# Altium schematic symbol library SchLib_Main.SchLib: 425 symbols (part 3 of 11)
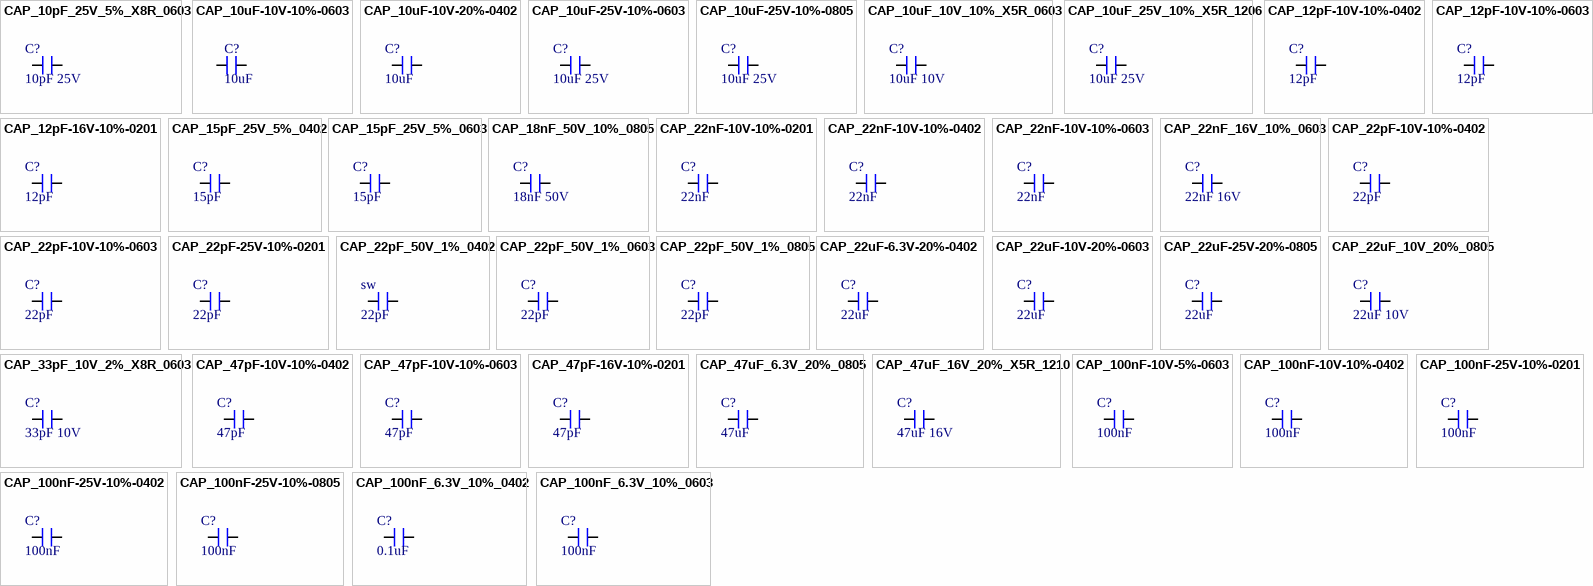
[diagram p18: symbols CAP_10pF_25V_5%_X8R_0603 to CAP_100nF_6.3V_10%_0603]

## CAP_10uF_25V_10%_X5R_1206
designator C?, comment 10uF 25V
Multilayer Ceramic Capacitor, 10 uF, 25 V, ± 10%, X5R, 1206 [3216 Metric]; Manufacturer 1: KEMET; Manufacturer Part Number 1: C1206C106K3PACTU; Material: 4241ConductorMaterial; Dissipation Factor: 5%; Supplier 1: Digi-Key; RoHS: Yes; Category: Ceramic Capacitors; Stock 1: 101746; Pricing 1: 1=0.35, 10=0.243, 50=0.17, 100=0.1457, 500=0.1093, 1000=0.09229 (USD); Mount: Surface Mount; Case/Package: 1206; Number of Pins: 2NUMBER; Case Code (Imperial): 1206; Case Code (Metric): 3216; Contact Plating: 154ConductorMaterial; Min Operating Temperature: -55°C; Max Operating Temperature: 85°C; Capacitance: 10uF; Tolerance: 10%; Dielectric: X5R; Packaging: Tape and Reel; Voltage Rating (DC): 25V; Voltage Rating: 25V; Series: SMD Comm X5R; Voltage Rating (AC): 25V; Length: 3.2mm; Width: 1.6002mm; Thickness: 1.8034mm; Depth: 1.6mm; Radiation Hardening: No; Reach SVHC Compliant: 4186SVHC; Lead Free: 5697LeadFree; RoHS Compliant: Yes; ComponentLink1URL: http://www.farnell.com/datasheets/2739687.pdf?src-supplier=Farnell; ComponentLink1Description: http://www.farnell.com/datasheets/2739687.pdf?src-supplier=Farnell; ComponentLink2URL: https://www.verical.com/server-webapp/html/getDatasheet?partID=385834&src-supplier=Verical; ComponentLink2Description: https://www.verical.com/server-webapp/html/getDatasheet?partID=385834&src-supplier=Verical; ComponentLink3URL: http://www.onlinecomponents.com/productFiles/mf-KEM/kem_c1006_x5r_smd.pdf?src-supplier=Onlinecomponents.com; ComponentLink3Description: http://www.onlinecomponents.com/productFiles/mf-KEM/kem_c1006_x5r_smd.pdf?src-supplier=Onlinecomponents.com; ComponentLink4URL: http://datasheet.octopart.com/C1206C106K3PAC-TU-Kemet-datasheet-5314969.pdf?src-supplier=Onlinecomponents.com; ComponentLink4Description: http://datasheet.octopart.com/C1206C106K3PAC-TU-Kemet-datasheet-5314969.pdf?src-supplier=Onlinecomponents.com; ComponentLink5URL: http://www.farnell.com/datasheets/2739687.pdf?src-supplier=Newark; ComponentLink5Description: http://www.farnell.com/datasheets/2739687.pdf?src-supplier=Newark; ComponentLink6URL: https://api.kemet.com/component-edge/download/datasheet/C1206C106K3PACTU.pdf?src-supplier=Digi-Key; ComponentLink6Description: https://api.kemet.com/component-edge/download/datasheet/C1206C106K3PACTU.pdf?src-supplier=Digi-Key; ComponentLink7URL: http://datasheet.octopart.com/C1206C106K3PAC-TU-Kemet-datasheet-5314969.pdf?src-supplier=Mouser; ComponentLink7Description: http://datasheet.octopart.com/C1206C106K3PAC-TU-Kemet-datasheet-5314969.pdf?src-supplier=Mouser; ComponentLink8URL: http://datasheet.octopart.com/C1206C106K3PAC-TU-Kemet-datasheet-5314969.pdf?src-supplier=Digi-Key; ComponentLink8Description: http://datasheet.octopart.com/C1206C106K3PAC-TU-Kemet-datasheet-5314969.pdf?src-supplier=Digi-Key; ComponentLink9URL: http://datasheet.octopart.com/C1206C106K3PAC-TU-Kemet-datasheet-5314969.pdf?src-supplier=Verical; ComponentLink9Description: http://datasheet.octopart.com/C1206C106K3PAC-TU-Kemet-datasheet-5314969.pdf?src-supplier=Verical; ComponentLink10URL: http://datasheet.octopart.com/C1206C106K3PAC-TU-Kemet-datasheet-5314969.pdf?src-supplier=Avnet; ComponentLink10Description: http://datasheet.octopart.com/C1206C106K3PAC-TU-Kemet-datasheet-5314969.pdf?src-supplier=Avnet; ComponentLink11URL: https://datasheet.octopart.com/C1206C106K3PACTU-Kemet-datasheet-10978831.pdf?src-supplier=Newark; ComponentLink11Description: https://datasheet.octopart.com/C1206C106K3PACTU-Kemet-datasheet-10978831.pdf?src-supplier=Newark; ComponentLink12URL: http://datasheet.octopart.com/C1206C106K3PAC-TU-Kemet-datasheet-5314969.pdf?src-supplier=Distrelec; ComponentLink12Description: http://datasheet.octopart.com/C1206C106K3PAC-TU-Kemet-datasheet-5314969.pdf?src-supplier=Distrelec; ComponentLink13URL: http://www.farnell.com/datasheets/2739687.pdf?src-supplier=Element14; ComponentLink13Description: http://www.farnell.com/datasheets/2739687.pdf?src-supplier=Element14; ComponentLink14URL: https://datasheet.octopart.com/C1206C106K3PACTU-Kemet-datasheet-22084244.pdf?src-supplier=Element14; ComponentLink14Description: https://datasheet.octopart.com/C1206C106K3PACTU-Kemet-datasheet-22084244.pdf?src-supplier=Element14; ComponentLink15URL: http://datasheet.octopart.com/C1206C106K3PAC-TU-Kemet-datasheet-5314969.pdf?src-supplier=Rs; ComponentLink15Description: http://datasheet.octopart.com/C1206C106K3PAC-TU-Kemet-datasheet-5314969.pdf?src-supplier=Rs; ComponentLink16URL: http://datasheet.octopart.com/C1206C106K3PAC-TU-Kemet-datasheet-5314969.pdf?src-supplier=LCSC; ComponentLink16Description: http://datasheet.octopart.com/C1206C106K3PAC-TU-Kemet-datasheet-5314969.pdf?src-supplier=LCSC; ComponentLink17URL: https://datasheet.octopart.com/C1206C106K3PAC7800-KEMET-datasheet-165611373.pdf?src-supplier=TME; ComponentLink17Description: https://datasheet.octopart.com/C1206C106K3PAC7800-KEMET-datasheet-165611373.pdf?src-supplier=TME; ComponentLink18URL: http://datasheet.octopart.com/C1206C106K3PAC-TU-Kemet-datasheet-5314969.pdf?src-supplier=NAC+Semi; ComponentLink18Description: http://datasheet.octopart.com/C1206C106K3PAC-TU-Kemet-datasheet-5314969.pdf?src-supplier=NAC+Semi; ComponentLink19URL: http://datasheet.octopart.com/C1206C106K3PAC-TU-Kemet-datasheet-5314969.pdf?src-supplier=Quest; ComponentLink19Description: http://datasheet.octopart.com/C1206C106K3PAC-TU-Kemet-datasheet-5314969.pdf?src-supplier=Quest; ComponentLink20URL: http://datasheet.octopart.com/C1206C106K3PAC-TU-Kemet-datasheet-5314969.pdf?src-supplier=TTI; ComponentLink20Description: http://datasheet.octopart.com/C1206C106K3PAC-TU-Kemet-datasheet-5314969.pdf?src-supplier=TTI; ComponentLink21URL: https://datasheet.octopart.com/C1206C106K3PACTU-KEMET-datasheet-134136060.pdf?src-supplier=Electro+Sonic; ComponentLink21Description: https://datasheet.octopart.com/C1206C106K3PACTU-KEMET-datasheet-134136060.pdf?src-supplier=Electro+Sonic; Supplier Part Number 1: 399-C1206C106K3PAC7800DKR-ND
footprint CAP_1206
pins: 1, 2

## CAP_12pF-10V-10%-0402
designator C?, comment 12pF
Cap Cer 0402 12PF 10V Ultra Stab; Manufacturer: KEMET; Manufacturer Part Number: C0402C120K8HAC7867; Tolerance: 10%; Case/Package: 0402; Supplier-1: Digikey; Supplier 1: Digi-Key; Manufacturer 1: KEMET; Manufacturer Part Number 1: C0402C120K8HAC7867; RoHS: Yes; Category: Ceramic Capacitors; Pricing 1: 50000=0.00392 (USD); Mount: Surface Mount; Min Operating Temperature: -55°C; Max Operating Temperature: 150°C; Features: High Temperature; Series: SMD Comm X8R HT150C; Packaging: Tape and Reel; Capacitance: 12pF; Voltage Rating: 10V; RoHS Compliant: Yes; Supplier Part Number 1: C0402C120K8HAC7867-ND
footprint CAP_0402 (Capacitor)
pins: 1, 2

## CAP_12pF-10V-10%-0603
designator C?, comment 12pF
12pF ±10% 10V Ceramic Capacitor X8R 0603 (1608 Metric) /; Manufacturer: KEMET; Manufacturer Part Number: C0603X120K8HAC7867; Case/Package: 0603; Supplier-1: Digikey; Supplier 1: Digi-Key; Manufacturer 1: KEMET; Manufacturer Part Number 1: C0603X120K8HAC7867; RoHS: No; Category: Ceramic Capacitors; Pricing 1: 20000=0.0096 (USD); Supplier Part Number 1: C0603X120K8HAC7867-ND
footprint CAP_0603 (Capacitor)
pins: 1, 2

## CAP_12pF-16V-10%-0201
designator C?, comment 12pF
Capacitor SMD Ceramic 0201 Case 16Vdc C0G (NP0) Dielectric 12pF ±10% ø7T/R"; Manufacturer: AVX Corporation; Manufacturer Part Number: 0201YA120KAT2A; Manufacturer 1: Kyocera AVX; Voltage Rating: 16V; Case/Package: 0201; Supplier-1: Digikey; Supplier 1: Digi-Key; Manufacturer Part Number 1: 0201YA120KAT2A; RoHS: Yes; Category: Ceramic Capacitors; Pricing 1: 15000=0.06696 (USD); Mount: Surface Mount; Number of Pins: 2; Case Code (Imperial): 0201; Case Code (Metric): 0603; Min Operating Temperature: -55°C; Max Operating Temperature: 125°C; Packaging: Tape and Reel; Capacitance: 12pF; Tolerance: 10%; Package Quantity: 15000; Voltage Rating (DC): 16V; Dielectric: C0G; Termination: SMD/SMT; Series: -; Construction: Flat; Length: 0.6mm; Width: 0.3mm; Depth: 0.3mm; Radiation Hardening: No; RoHS Compliant: Yes; ComponentLink1URL: https://datasheet.ciiva.com/13269/ccog-243403-13269830.pdf?src-supplier=Mouser; ComponentLink1Description: https://datasheet.ciiva.com/13269/ccog-243403-13269830.pdf?src-supplier=Mouser; ComponentLink2URL: https://datasheet.ciiva.com/208/ccog-208350.pdf?src-supplier=Digi-Key; ComponentLink2Description: https://datasheet.ciiva.com/208/ccog-208350.pdf?src-supplier=Digi-Key; Supplier Part Number 1: 0201YA120KAT2A-ND
footprint CAP_0201
pins: 1, 2

## CAP_15pF_25V_5%_0402
designator C?, comment 15pF
0402 15 pF 25 V ±5% Tolerance C0G/NP0 Multilayer Ceramic Capacitor; Manufacturer: Yageo; Manufacturer Part Number: CC0402JRNPO8BN150; Supplier 1: Future Electronics; RoHS: Yes; Category: Ceramic Capacitors; Stock 1: 60000; Pricing 1: 10000=0.002, 40000=0.0019, 150000=0.0018, 400000=0.0017, 1000000=0.0016 (USD); ComponentLink1URL: https://datasheet.ciiva.com/13208/upy-gp-np0-16v-to-50v-8-13208552.pdf?src-supplier=Mouser; ComponentLink1Description: https://datasheet.ciiva.com/13208/upy-gp-np0-16v-to-50v-8-13208552.pdf?src-supplier=Mouser; Supplier 2: Digi-Key; Manufacturer 2: Yageo; Manufacturer Part Number 2: CC0402JRNPO8BN150; Stock 2: 198627; Pricing 2: 1=0.1, 10=0.024, 50=0.013, 100=0.0107, 500=0.00764, 1000=0.006, 2500=0.00546, 5000=0.00502 (USD); Supplier Part Number 2: 311-3746-1-ND
footprint CAP_0402
pins: 1, 2

## CAP_15pF_25V_5%_0603
designator C?, comment 15pF
Surface Mount Ceramic Multilayer Capacitor 15pF 5% C0G 25V 0603 Paper T/R; Manufacturer: Yageo; Manufacturer Part Number: CC0603JRNPO8BN150; Supplier 1: Digi-Key; RoHS: Yes; Category: Ceramic Capacitors; Stock 1: 22373; Pricing 1: 1=0.1, 10=0.051, 50=0.028, 100=0.0228, 500=0.0163, 1000=0.0128 (USD); Mount: Surface Mount; Case/Package: 0603; Case Code (Imperial): 0603; Case Code (Metric): 1608; Weight: 7.1E-05oz; Min Operating Temperature: -55°C; Max Operating Temperature: 125°C; Capacitance: 15pF; Voltage Rating (DC): 25V; Tolerance: 5%; Packaging: Tape and Reel; Dielectric: C0G; Termination: SMD/SMT; Voltage Rating: 25V; Series: CC; Length: 0.063inch; Width: 0.031inch; Thickness: 0.035inch; RoHS Compliant: Yes; ComponentLink1URL: http://www.mouser.com/ds/2/447/Yageo_UPY-GP_NP0_16V-to-50V_9-358835.pdf?src-supplier=Mouser; ComponentLink1Description: http://www.mouser.com/ds/2/447/Yageo_UPY-GP_NP0_16V-to-50V_9-358835.pdf?src-supplier=Mouser; ComponentLink2URL: http://www.yageo.com/documents/recent/UPY-GP_NP0_16V-to-50V_16.pdf?src-supplier=Digi-Key; ComponentLink2Description: http://www.yageo.com/documents/recent/UPY-GP_NP0_16V-to-50V_16.pdf?src-supplier=Digi-Key; ComponentLink3URL: https://www.yageo.com/upload/media/product/productsearch/datasheet/mlcc/UPY-GP_NP0_16V-to-50V_18.pdf?src-supplier=Digi-Key; ComponentLink3Description: https://www.yageo.com/upload/media/product/productsearch/datasheet/mlcc/UPY-GP_NP0_16V-to-50V_18.pdf?src-supplier=Digi-Key; ComponentLink4URL: http://www.yageo.com/exep/pages/download/literatures/ProductSelectionGuide%202014_Final_2.pdf?src-supplier=Digi-Key; ComponentLink4Description: http://www.yageo.com/exep/pages/download/literatures/ProductSelectionGuide%202014_Final_2.pdf?src-supplier=Digi-Key; Supplier 2: Digi-Key; Manufacturer 2: Yageo; Manufacturer Part Number 2: CC0603JRNPO8BN150; Stock 2: 22373; Pricing 2: 1=0.1, 10=0.051, 50=0.028, 100=0.0228, 500=0.0163, 1000=0.0128 (USD); Supplier Part Number 2: 311-3951-1-ND
footprint CAP_0603 (Chip Capacitor 0603, 2-Leads, Body 1.68x0.88mm, IPC Medium Density)
pins: 1, 2

## CAP_18nF_50V_10%_0805
designator C?, comment 18nF 50V
Ceramic Capacitor, Multilayer, Ceramic, 50V, 10% +Tol, 10% -Tol, X7R, 15% TC, 0.018uF, Surface Mount, 0805; Manufacturer: KEMET; Manufacturer Part Number: C0805C183K5RACTU; Multilayer: Yes; Supplier: Mouser; Supplier Part Number: 80-C0805C183K5R; RoHS: Yes; Category: Ceramic Capacitors; Stock: 11243; Pricing: 1=0.17, 10=0.074, 50=0.074, 100=0.043, 1000=0.034, 10000=0.029 (USD); Mounting Technology: Surface Mount; Pins: 2; Dielectric Material: Ceramic; Package Shape: Rectangular; Case/Package: 0805; Terminal Finish: Nickel; Min Operating Temperature: -55°C; Max Operating Temperature: 125°C; JESD-609 Code: e3; Value: 18nF; Capacitor Type: Ceramic; Tolerance  (fill in as +-): 10%; Package Style: SMTMeter; Packaging: Tape and Reel; Tolerance (fill in as +-): 10%; Rated DC Voltage (URdc): 50V; Temperature Characteristics Code: X7R; Termination: Wraparound; Length: 2mm; Width: 1.25mm; Height: 0.78mm; Reach SVHC Compliant: Yes; RoHS Compliant: Yes; ComponentLink1URL: https://datasheet.ciiva.com:443/pdfs/VipMasterIC/IC/KEME/KEME-S-A0008991654/KEME-S-A0008991654-1.pdf?src-supplier=IHS+Markit; ComponentLink1Description: https://datasheet.ciiva.com:443/pdfs/VipMasterIC/IC/KEME/KEME-S-A0008991654/KEME-S-A0008991654-1.pdf?src-supplier=IHS+Markit; ComponentLink2URL: https://datasheet.ciiva.com/14600/70095383-14600958.pdf?src-supplier=Allied+Electronics; ComponentLink2Description: https://datasheet.ciiva.com/14600/70095383-14600958.pdf?src-supplier=Allied+Electronics; ComponentLink3URL: https://datasheet.ciiva.com/5422/kem-c1002-x7r-smd-5422951.pdf?src-supplier=Mouser; ComponentLink3Description: https://datasheet.ciiva.com/5422/kem-c1002-x7r-smd-5422951.pdf?src-supplier=Mouser
footprint CAP_0805
pins: 1, 2

## CAP_22nF-10V-10%-0201
designator C?, comment 22nF
0201 22000 pF 10 V ±10% Tolerance Multilayer Ceramic Chip Capacitor; Manufacturer: Yageo; Manufacturer Part Number: CC0201KRX5R6BB223; Case/Package: 0201; Supplier-1: Digikey; Supplier 1: Digi-Key; Manufacturer 1: Yageo; Manufacturer Part Number 1: CC0201KRX5R6BB223; RoHS: Yes; Category: Ceramic Capacitors; Stock 1: 313293; Pricing 1: 1=0.1, 10=0.022, 50=0.0122, 100=0.0099, 500=0.00708, 1000=0.00556, 2500=0.00505, 5000=0.00465 (USD); ComponentLink1URL: https://datasheet.octopart.com/CC0201KRX5R6BB223-Yageo-datasheet-140260304.pdf?src-supplier=Newark; ComponentLink1Description: https://datasheet.octopart.com/CC0201KRX5R6BB223-Yageo-datasheet-140260304.pdf?src-supplier=Newark; ComponentLink2URL: https://www.yageo.com/upload/media/product/productsearch/datasheet/mlcc/UPY-GPHC_X5R_4V-to-50V_26.pdf?src-supplier=Digi-Key; ComponentLink2Description: https://www.yageo.com/upload/media/product/productsearch/datasheet/mlcc/UPY-GPHC_X5R_4V-to-50V_26.pdf?src-supplier=Digi-Key; ComponentLink3URL: http://www.yageo.com/exep/pages/download/literatures/ProductSelectionGuide%202014_Final_2.pdf?src-supplier=Digi-Key; ComponentLink3Description: http://www.yageo.com/exep/pages/download/literatures/ProductSelectionGuide%202014_Final_2.pdf?src-supplier=Digi-Key; ComponentLink4URL: https://datasheet.octopart.com/CC0201KRX5R6BB223-Yageo-datasheet-137875056.pdf?src-supplier=Future+Electronics; ComponentLink4Description: https://datasheet.octopart.com/CC0201KRX5R6BB223-Yageo-datasheet-137875056.pdf?src-supplier=Future+Electronics; Supplier Part Number 1: 311-3687-1-ND
footprint CAP_0201
pins: 1, 2

## CAP_22nF-10V-10%-0402
designator C?, comment 22nF
Multilayer Ceramic Capacitor, 0.022 uF, 10 V, ± 10%, X7R, 0402 [1005 Metric]; Manufacturer: Samsung Electro-Mechanics; Manufacturer Part Number: CL05B223KP5NNNC; Manufacturer 1: Samsung; Voltage Rating: 10V; Case/Package: 0402; Supplier-1: Digikey; Supplier 1: Digi-Key; Manufacturer Part Number 1: CL05B223KP5NNNC; RoHS: Yes; Category: Ceramic Capacitors; Stock 1: 770000; Pricing 1: 1=0.1, 10=0.015, 50=0.0082, 100=0.0067, 500=0.00478, 1000=0.00375, 2500=0.00341, 5000=0.00314 (USD); Mount: Surface Mount; Case Code (Metric): 1005; Case Code (Imperial): 0402; Min Operating Temperature: -55°C; Max Operating Temperature: 125°C; Package Quantity: 1; Packaging: Tape and Reel; Capacitance: 22nF; Tolerance: 10%; Dielectric: X7R; Voltage Rating (DC): 10V; Series: CL; Construction: Flat; Length: 0.039inch; Width: 0.02inch; Height: 0.5mm; Thickness: 0.022inch; Depth: 0.5mm; Radiation Hardening: No; RoHS Compliant: Yes; Lead Free: Lead Free; ComponentLink1URL: https://datasheet.ciiva.com/25743/cl05b223kp5nnnc-25743971.pdf?src-supplier=Digi-Key; ComponentLink1Description: https://datasheet.ciiva.com/25743/cl05b223kp5nnnc-25743971.pdf?src-supplier=Digi-Key; Supplier Part Number 1: 1276-1538-1-ND
footprint CAP_0402 (Capacitor)
pins: 1, 2

## CAP_22nF-10V-10%-0603
designator C?, comment 22nF
Multilayer Ceramic Capacitor 0.022uF 10V 10% 0603 Paper T/R; Manufacturer: Taiyo Yuden; Manufacturer Part Number: LMF107B7223KAHT; Case/Package: 0603; Supplier-1: Digikey; Supplier 1: Digi-Key; Manufacturer 1: Taiyo Yuden; Manufacturer Part Number 1: LMF107B7223KAHT; RoHS: Yes; Category: Ceramic Capacitors; Stock 1: 481; Pricing 1: 1=0.19, 10=0.132, 50=0.0748, 100=0.0619, 500=0.04344, 1000=0.03596 (USD); Supplier Part Number 1: 587-6550-1-ND
footprint CAP_0603 (Capacitor)
pins: 1, 2

## CAP_22nF_16V_10%_0603
designator C?, comment 22nF 16V
Ceramic Capacitor, Multilayer, Ceramic, 16V, 10% +Tol, 10% -Tol, X7R, 15% TC, 0.022uF, Surface Mount, 0603; Manufacturer: KEMET; Manufacturer Part Number: C0603C223K4RACTU; Multilayer: Yes; Supplier: Mouser; Supplier Part Number: 80-C0603C223K4R; RoHS: Yes; Category: Ceramic Capacitors; Stock: 25625; Pricing: 1=0.1, 10=0.029, 50=0.029, 100=0.015, 1000=0.01, 10000=0.008 (USD); Mounting Technology: Surface Mount; Pins: 2; Dielectric Material: Ceramic; Package Shape: Rectangular; Case/Package: 0603; Terminal Finish: Nickel; Min Operating Temperature: -55°C; Max Operating Temperature: 125°C; JESD-609 Code: e3; Value: 22nF; Capacitor Type: Ceramic; Tolerance  (fill in as +-): 10%; Package Style: SMTMeter; Packaging: Tape and Reel; Tolerance (fill in as +-): 10%; Rated DC Voltage (URdc): 16V; Temperature Characteristics Code: X7R; Termination: Wraparound; Length: 1.6mm; Width: 0.8mm; Height: 0.8mm; Reach SVHC Compliant: Yes; RoHS Compliant: Yes; ComponentLink1URL: https://datasheet.ciiva.com:443/pdfs/VipMasterIC/IC/KEME/KEME-S-A0008991654/KEME-S-A0008991654-1.pdf?src-supplier=IHS+Markit; ComponentLink1Description: https://datasheet.ciiva.com:443/pdfs/VipMasterIC/IC/KEME/KEME-S-A0008991654/KEME-S-A0008991654-1.pdf?src-supplier=IHS+Markit; ComponentLink2URL: https://datasheet.ciiva.com/49516/1636924-49516646.pdf?src-supplier=Jameco; ComponentLink2Description: https://datasheet.ciiva.com/49516/1636924-49516646.pdf?src-supplier=Jameco; ComponentLink3URL: https://datasheet.ciiva.com/14601/70095383-14601245.pdf?src-supplier=Allied+Electronics; ComponentLink3Description: https://datasheet.ciiva.com/14601/70095383-14601245.pdf?src-supplier=Allied+Electronics; ComponentLink4URL: https://datasheet.ciiva.com/26847/getdatasheetpartid-724406-26847612.pdf?src-supplier=Verical; ComponentLink4Description: https://datasheet.ciiva.com/26847/getdatasheetpartid-724406-26847612.pdf?src-supplier=Verical; ComponentLink5URL: https://datasheet.ciiva.com/14599/70095383-14599397.pdf?src-supplier=Allied+Electronics; ComponentLink5Description: https://datasheet.ciiva.com/14599/70095383-14599397.pdf?src-supplier=Allied+Electronics
footprint CAP_0603
pins: 1, 2

## CAP_22pF-10V-10%-0402
designator C?, comment 22pF
Capacitor, Ceramic, 22pF, 10VDC, 10-% Tol, 10+% Tol, C0G-TC Code, -30, 30ppm-TC RoHS Compliant: Yes; Manufacturer: KEMET; Manufacturer Part Number: C0402C220K8GACTU; Tolerance: 10%; Voltage Rating: 10V; Dielectric: C0G; Dissipation Factor: 0.1%; Case/Package: 0402; Supplier-1: Digikey; Supplier 1: Mouser; Manufacturer 1: KEMET; Manufacturer Part Number 1: C0402C220K8GACTU; RoHS: Yes; Category: Ceramic Capacitors; Stock 1: 11467; Pricing 1: 1=0.31, 10=0.151, 50=0.151, 100=0.097, 1000=0.082, 10000=0.07 (USD); Mount: Surface Mount; Case Code (Imperial): 0402; Case Code (Metric): 1005; Dielectric Material: Ceramic; Min Operating Temperature: -55°C; Max Operating Temperature: 125°C; Capacitance: 22pF; Package Quantity: 10000; Voltage Rating (DC): 10V; Packaging: Tape and Reel; Termination: SMD/SMT; Series: SMD Comm C0G; Length: 1mm; Width: 0.5mm; Height: 0.5mm; Lead Pitch: 0.3mm; Depth: 0.5mm; Radiation Hardening: No; Lead Free: Lead Free; RoHS Compliant: Yes; ComponentLink1URL: https://datasheet.ciiva.com/5435/kem-c1003-c0g-smd-356956-5435110.pdf?src-supplier=Mouser; ComponentLink1Description: https://datasheet.ciiva.com/5435/kem-c1003-c0g-smd-356956-5435110.pdf?src-supplier=Mouser; ComponentLink2URL: https://datasheet.ciiva.com/18192/getdatasheetpartid-644741-18192460.pdf?src-supplier=Verical; ComponentLink2Description: https://datasheet.ciiva.com/18192/getdatasheetpartid-644741-18192460.pdf?src-supplier=Verical; Supplier Part Number 1: 80-C0402C220K8G
footprint CAP_0402 (Capacitor)
pins: 1, 2

## CAP_22pF-10V-10%-0603
designator C?, comment 22pF
22pF ±10% 10V Ceramic Capacitor X8R 0603 (1608 Metric) /; Manufacturer: KEMET; Manufacturer Part Number: C0603X220K8HAC7867; Case/Package: 0603; Supplier-1: Digikey; Supplier 1: Digi-Key; Manufacturer 1: KEMET; Manufacturer Part Number 1: C0603X220K8HAC7867; RoHS: No; Category: Ceramic Capacitors; Pricing 1: 24000=0.00894 (USD); Supplier Part Number 1: C0603X220K8HAC7867-ND
footprint CAP_0603 (Capacitor)
pins: 1, 2

## CAP_22pF-25V-10%-0201
designator C?, comment 22pF
Cap Ceramic 22pF 25V C0G 10% SMD 0201 125C Paper T/R; Manufacturer: Johanson Technology Inc.; Manufacturer Part Number: 250R05L220KV4T; Manufacturer 1: Johanson; Case/Package: 0201; Supplier-1: Digikey; Supplier 1: Mouser; Manufacturer Part Number 1: 250R05L220KV4T; RoHS: Yes; Category: Ceramic Capacitors; Pricing 1: 1=0.11, 10=0.081, 50=0.081, 100=0.037, 1000=0.021, 10000=0.015 (USD); Mount: Surface Mount; Case Code (Imperial): 0201; Case Code (Metric): 0603; Weight: 6E-06oz; Min Operating Temperature: -55°C; Max Operating Temperature: 125°C; Voltage Rating: 25V; Capacitance: 22pF; Voltage Rating (DC): 25V; Tolerance: 10%; Packaging: Tape and Reel; Package Quantity: 15000; Dielectric: C0G; Termination: SMD/SMT; Series: L; Length: 0.6mm; Width: 0.3mm; Height: 0.3mm; Depth: 0.3mm; RoHS Compliant: Yes; ComponentLink1URL: http://www.mouser.com/ds/2/611/JTI-CAT-MLCC-HighQ-516212.pdf?src-supplier=Mouser; ComponentLink1Description: http://www.mouser.com/ds/2/611/JTI-CAT-MLCC-HighQ-516212.pdf?src-supplier=Mouser; ComponentLink2URL: https://www.johansontechnology.com/downloads/JTI-CAT-MLCC-HighQ.pdf?src-supplier=Digi-Key; ComponentLink2Description: https://www.johansontechnology.com/downloads/JTI-CAT-MLCC-HighQ.pdf?src-supplier=Digi-Key; ComponentLink3URL: http://components.arrow.com/part/dataview/43745096S9156427N2069?src-supplier=Arrow+Electronics; ComponentLink3Description: http://components.arrow.com/part/dataview/43745096S9156427N2069?src-supplier=Arrow+Electronics; Supplier Part Number 1: 609-250R05L220KV4T
footprint CAP_0201
pins: 1, 2

## CAP_22pF_50V_1%_0402
designator sw, comment 22pF
Ceramic Multilayer Mlcc Capacitors- SMD; Manufacturer: KEMET; Manufacturer Part Number: C0402C220F5HACAUTO; Tolerance: 1%; Voltage Rating: 50V; Supplier 1: Mouser; RoHS: Yes; Category: Ceramic Capacitors; Stock 1: 14866; Pricing 1: 1=0.19, 10=0.079, 50=0.079, 100=0.046, 1000=0.041, 10000=0.031 (USD); Mount: Surface Mount; Case/Package: 0402; Min Operating Temperature: -55°C; Max Operating Temperature: 150°C; Features: High Temperature; Series: SMD Auto X8R HT150C; Packaging: Tape and Reel; Capacitance: 22pF; Ratings: AEC-Q200; RoHS Compliant: Yes; Supplier 2: Digi-Key; Manufacturer 2: KEMET; Manufacturer Part Number 2: C0402C220F5HACAUTO; Stock 2: 47705; Pricing 2: 1=0.18, 10=0.125, 50=0.0748, 100=0.0631, 500=0.04318, 1000=0.0382, 2500=0.03654, 5000=0.03322 (USD); Supplier Part Number 2: 399-C0402C220F5HACAUTOCT-ND
footprint CAP_0402
pins: 1, 2

## CAP_22pF_50V_1%_0603
designator C?, comment 22pF
Cap, AEC-Q200, 22PF, 50V, Mlcc, 0603;; Manufacturer: KEMET; Manufacturer Part Number: C0603C220F5GACAUTO; Tolerance: 1%; Dielectric: C0G; Supplier 1: Mouser; RoHS: Yes; Category: Ceramic Capacitors; Stock 1: 6441; Pricing 1: 1=0.36, 10=0.245, 50=0.245, 100=0.147, 1000=0.093, 10000=0.075 (USD); Case/Package: 0603; Min Operating Temperature: -55°C; Max Operating Temperature: 125°C; Capacitance: 22pF; Packaging: Bulk; Length: 1.6mm; Depth: 0.8mm; RoHS Compliant: Yes; Supplier 2: Mouser; Manufacturer 2: KEMET; Manufacturer Part Number 2: C0603C220F5GACAUTO; Stock 2: 6441; Pricing 2: 1=0.36, 10=0.245, 50=0.245, 100=0.147, 1000=0.093, 10000=0.075 (USD); Supplier Part Number 2: 80-C0603C220F5GAUTO
footprint CAP_0603 (Chip Capacitor 0603, 2-Leads, Body 1.68x0.88mm, IPC Medium Density)
pins: 1, 2

## CAP_22pF_50V_1%_0805
designator C?, comment 22pF
Multilayer Ceramic Capacitor, 22 pF, 50 V, ± 1%, C0G (NP0), 0805 [2012 Metric]; Manufacturer: KEMET; Manufacturer Part Number: C0805C220F5GACTU; Supplier 1: Mouser; RoHS: Yes; Category: Ceramic Capacitors; Stock 1: 8817; Pricing 1: 1=0.79, 10=0.495, 50=0.495, 100=0.409, 1000=0.278, 10000=0.24 (USD); ComponentLink1URL: https://datasheet.ciiva.com/11650/kem-c1003-c0g-smd-11650462.pdf?src-supplier=Avnet; ComponentLink1Description: https://datasheet.ciiva.com/11650/kem-c1003-c0g-smd-11650462.pdf?src-supplier=Avnet; Supplier 2: Mouser; Manufacturer 2: KEMET; Manufacturer Part Number 2: C0805C220F5GACTU; Stock 2: 7310; Pricing 2: 1=0.79, 10=0.495, 50=0.495, 100=0.409, 1000=0.278, 10000=0.24 (USD); Supplier Part Number 2: 80-C0805C220F5G
footprint CAP_0805 (Chip Capacitor, 2-Leads, Body 2.10x1.35mm, IPC Medium Density)
pins: 1, 2

## CAP_22uF-6.3V-20%-0402
designator C?, comment 22uF
Multilayer Ceramic Capacitor, 22 uF, 6.3 V, ± 20%, X5R, 0402 [1005 Metric]; Manufacturer: Murata Electronics; Manufacturer Part Number: CL05A226MQ5N6J8; Manufacturer 1: Samsung; Voltage Rating: 6.3V; Case/Package: 0402; Supplier-1: Digikey; Supplier 1: Digi-Key; Manufacturer Part Number 1: CL05A226MQ5N6J8; RoHS: Yes; Category: Ceramic Capacitors; Stock 1: 115539; Pricing 1: 1=0.49, 10=0.342, 50=0.2394, 100=0.2053, 500=0.15394, 1000=0.12999, 2500=0.12315 (USD); Mount: Surface Mount; Case Code (Imperial): 0402; Case Code (Metric): 1005; Min Operating Temperature: -55°C; Max Operating Temperature: 85°C; Packaging: Cut Tape; Capacitance: 22uF; Tolerance: 20%; Series: CL; RoHS Compliant: Yes; ComponentLink1URL: https://datasheet.octopart.com/CL05A226MQ5N6J8-Samsung-Electro-Mechanics-datasheet-149154065.pdf?src-supplier=Future+Electronics; ComponentLink1Description: https://datasheet.octopart.com/CL05A226MQ5N6J8-Samsung-Electro-Mechanics-datasheet-149154065.pdf?src-supplier=Future+Electronics; ComponentLink2URL: http://www.samsungsem.com/kr/support/library/product-catalog/mlcc.jsp?src-supplier=Digi-Key; ComponentLink2Description: http://www.samsungsem.com/kr/support/library/product-catalog/mlcc.jsp?src-supplier=Digi-Key; Supplier Part Number 1: 1276-7090-1-ND
footprint CAP_0402 (Capacitor)
pins: 1, 2

## CAP_22uF-10V-20%-0603
designator C?, comment 22uF
Multilayer Ceramic Capacitor, 22 uF, 10 V, ± 20%, X5R, 0603 [1608 Metric]; Manufacturer: Murata Electronics; Manufacturer Part Number: GRM188R61A226ME15D; Manufacturer 1: Murata; Voltage Rating: 10V; Case/Package: 0603; Supplier-1: Digikey; Supplier 1: Digi-Key; Manufacturer Part Number 1: GRM188R61A226ME15D; RoHS: Yes; Category: Ceramic Capacitors; Stock 1: 745970; Pricing 1: 1=0.2, 10=0.133, 50=0.0798, 100=0.0674, 500=0.04614, 1000=0.04081 (USD); Mount: Surface Mount; Case Code (Metric): 1608; Case Code (Imperial): 0603; Material: Ceramic; Weight: 0.000222oz; Min Operating Temperature: -55°C; Max Operating Temperature: 85°C; Capacitance: 22uF; Tolerance: 20%; Packaging: Cut Tape; Dielectric: X5R; Termination: SMD/SMT; Voltage Rating (DC): 10V; Package Quantity: 4000; Series: GRM; Length: 1.6mm; Width: 0.8mm; Height: 0.8mm; Thickness: 0.039inch; Reach SVHC Compliant: No; Lead Free: Lead Free; RoHS Compliant: Yes; ComponentLink1URL: https://datasheet.ciiva.com/46444/1769893-46444975.pdf?src-supplier=Element14; ComponentLink1Description: https://datasheet.ciiva.com/46444/1769893-46444975.pdf?src-supplier=Element14; Supplier Part Number 1: 490-10476-1-ND
footprint CAP_0603 (Capacitor)
pins: 1, 2

## CAP_22uF-25V-20%-0805
designator C?, comment 22uF
0805 25 V 22 uF ±20% Tolerance X5R Monolithic Ceramic Chip Capacitor; Manufacturer: Murata Electronics; Manufacturer Part Number: GRM21BR61E226ME44K; Manufacturer 1: Murata; Voltage Rating: 25V; Case/Package: 0805; Supplier-1: Digikey; Supplier 1: Digi-Key; Manufacturer Part Number 1: GRM21BR61E226ME44K; RoHS: Yes; Category: Ceramic Capacitors; Stock 1: 809289; Pricing 1: 1=0.3, 10=0.205, 50=0.1436, 100=0.1231, 500=0.09234, 1000=0.07798, 2500=0.07387, 5000=0.06977 (USD); Mount: Surface Mount; Case Code (Imperial): 0805; Case Code (Metric): 2012; Weight: 0.000335oz; Min Operating Temperature: -55°C; Max Operating Temperature: 85°C; Packaging: Tape and Reel; Capacitance: 22uF; Tolerance: 20%; Dielectric: X5R; Termination: SMD/SMT; Voltage Rating (DC): 25V; Package Quantity: 10000; Series: GRM; Length: 0.079inch; Width: 1.25mm; Height: 1.25mm; Thickness: 0.057inch; RoHS Compliant: Yes; ComponentLink1URL: http://www.mouser.com/ds/2/281/c02e-2905.pdf?src-supplier=Mouser; ComponentLink1Description: http://www.mouser.com/ds/2/281/c02e-2905.pdf?src-supplier=Mouser; ComponentLink2URL: http://search.murata.co.jp/Ceramy/image/img/A01X/G101/ENG/GRM21BR61E226ME44-01.pdf?src-supplier=Digi-Key; ComponentLink2Description: http://search.murata.co.jp/Ceramy/image/img/A01X/G101/ENG/GRM21BR61E226ME44-01.pdf?src-supplier=Digi-Key; ComponentLink3URL: https://search.murata.co.jp/Ceramy/image/img/A01X/G101/ENG/GRM21BR61E226ME44-01.pdf?src-supplier=Digi-Key; ComponentLink3Description: https://search.murata.co.jp/Ceramy/image/img/A01X/G101/ENG/GRM21BR61E226ME44-01.pdf?src-supplier=Digi-Key; Supplier Part Number 1: 490-14661-1-ND
footprint CAP_0805 (Ceramic Capacitor)
pins: 1, 2

## CAP_22uF_10V_20%_0805
designator C?, comment 22uF 10V
Ceramic Capacitor, Multilayer, Ceramic, 10V, 20% +Tol, 20% -Tol, X5R, 15% TC, 22uF, Surface Mount, 0805; Manufacturer: Samsung; Manufacturer Part Number: CL21A226MPQNNNE; Multilayer: Yes; Supplier: Digikey; Supplier Part Number: 1276-2910-1-ND; RoHS: Yes; Category: Ceramic Capacitors; Stock: 364060; Pricing: 1=0.18, 10=0.121, 50=0.0726, 100=0.0571, 500=0.04214, 1000=0.03489 (USD); Mounting Technology: Surface Mount; Pins: 2; Case/Package: 0805; Dielectric Material: Ceramic; Package Shape: Rectangular; Terminal Finish: Nickel; Min Operating Temperature: -55°C; Max Operating Temperature: 85°C; Package Style: SMTMeter; Packaging: Tape and Reel; JESD-609 Code: e3; Value: 22uF; Capacitor Type: Ceramic; Tolerance  (fill in as +-): 20%; Tolerance (fill in as +-): 20%; Rated DC Voltage (URdc): 10V; Temperature Characteristics Code: X5R; Termination: Wraparound; Length: 2mm; Width: 1.25mm; Height: 1.4mm; Reach SVHC Compliant: Yes; RoHS Compliant: Yes; ComponentLink1URL: https://datasheet.ciiva.com:443/pdfs/VipMasterIC/IC/SEMS/SEMS-S-A0008528919/SEMS-S-A0008526560-1.pdf?src-supplier=IHS+Markit; ComponentLink1Description: https://datasheet.ciiva.com:443/pdfs/VipMasterIC/IC/SEMS/SEMS-S-A0008528919/SEMS-S-A0008526560-1.pdf?src-supplier=IHS+Markit; ComponentLink2URL: https://datasheet.ciiva.com/25721/cl21a226mpqnnne-25721488.pdf?src-supplier=Digikey; ComponentLink2Description: https://datasheet.ciiva.com/25721/cl21a226mpqnnne-25721488.pdf?src-supplier=Digikey
footprint CAP_0805
pins: 1, 2

## CAP_33pF_10V_2%_X8R_0603
designator C?, comment 33pF 10V
33 pF ±2% 10V Ceramic Capacitor X8R 0603 (1608 Metric); Manufacturer: KEMET; Manufacturer Part Number: C0603C330G8HAC7867; Supplier: Digi-Key; Supplier Part Number: 399-C0603C330G8HAC7867DKR-ND; RoHS: No; Category: Ceramic Capacitors; Stock: 13798; Pricing: 1=0.1, 10=0.069, 50=0.0394, 100=0.0305, 500=0.02298, 1000=0.01805 (USD)
footprint CAP_0603
pins: 1, 2

## CAP_47pF-10V-10%-0402
designator C?, comment 47pF
Cap Ceramic 47pF 10V C0G 10% SMD 0402 125°C Paper T/R; Manufacturer: KEMET; Manufacturer Part Number: C0402C470K8GAC7867; Case/Package: 0402; Supplier-1: Supplier-1; Supplier 1: Digi-Key; Manufacturer 1: KEMET; Manufacturer Part Number 1: C0402C470K8GAC7867; RoHS: Yes; Category: Ceramic Capacitors; Stock 1: 14294; Pricing 1: 1=0.29, 10=0.204, 50=0.1428, 100=0.1224, 500=0.0918, 1000=0.07752, 2500=0.07344, 5000=0.06936 (USD); ComponentLink1URL: http://capacitoredge.kemet.com/capedge2/DataSheet?pn=C0402C470K8GACTU&src-supplier=Avnet; ComponentLink1Description: http://capacitoredge.kemet.com/capedge2/DataSheet?pn=C0402C470K8GACTU&src-supplier=Avnet; ComponentLink2URL: https://api.kemet.com/component-edge/download/datasheet/C0402C470K8GACTU.pdf?src-supplier=Digi-Key; ComponentLink2Description: https://api.kemet.com/component-edge/download/datasheet/C0402C470K8GACTU.pdf?src-supplier=Digi-Key; ComponentLink3URL: http://capacitoredge.kemet.com/capedge2/DataSheet?pn=C0402C470K8GACTU; ComponentLink3Description: http://capacitoredge.kemet.com/capedge2/DataSheet?pn=C0402C470K8GACTU; Supplier Part Number 1: 399-14455-1-ND
footprint CAP_0402 (Capacitor)
pins: 1, 2

## CAP_47pF-10V-10%-0603
designator C?, comment 47pF
47pF ±10% 10V Ceramic Capacitor X8R 0603 (1608 Metric) /; Manufacturer: KEMET; Manufacturer Part Number: C0603X470K8HAC7867; Case/Package: 0603; Supplier-1: Supplier-1; Supplier 1: Digi-Key; Manufacturer 1: KEMET; Manufacturer Part Number 1: C0603X470K8HAC7867; RoHS: No; Category: Ceramic Capacitors; Pricing 1: 20000=0.0096 (USD); Supplier Part Number 1: C0603X470K8HAC7867-ND
footprint CAP_0603 (Capacitor)
pins: 1, 2

## CAP_47pF-16V-10%-0201
designator C?, comment 47pF
Capacitor SMD Ceramic 0201 Case 16Vdc X5R Dielectric 47pF ±10% ø7T/R"; Manufacturer: AVX Corporation; Manufacturer Part Number: 0201YD470KAT2A; Manufacturer 1: Kyocera AVX; Voltage Rating: 16V; Case/Package: 0201; Supplier-1: Supplier-1; Supplier 1: Digi-Key; Manufacturer Part Number 1: 0201YD470KAT2A; RoHS: Yes; Category: Ceramic Capacitors; Pricing 1: 15000=0.0744 (USD); Mount: Surface Mount; Min Operating Temperature: -55°C; Max Operating Temperature: 85°C; Packaging: Tape and Reel; Package Quantity: 15000; Capacitance: 47pF; Tolerance: 10%; Voltage Rating (DC): 16V; Series: -; Length: 0.024inch; Width: 0.012inch; Thickness: 0.013inch; ComponentLink1URL: https://datasheet.ciiva.com/13196/cx5r-13196313.pdf?src-supplier=Mouser; ComponentLink1Description: https://datasheet.ciiva.com/13196/cx5r-13196313.pdf?src-supplier=Mouser; ComponentLink2URL: https://datasheet.ciiva.com/6269/cx5r-6269455.pdf?src-supplier=Digi-Key; ComponentLink2Description: https://datasheet.ciiva.com/6269/cx5r-6269455.pdf?src-supplier=Digi-Key; Supplier Part Number 1: 0201YD470KAT2A-ND
footprint CAP_0201
pins: 1, 2

## CAP_47uF_6.3V_20%_0805
designator C?, comment 47uF
Multilayer Ceramic Capacitor, 47 uF, 6.3 V, ± 20%, X5R, 0805 [2012 Metric]; Manufacturer: KEMET; Manufacturer Part Number: C0805C476M9PACTU; Voltage Rating (DC): 6.3V; Dissipation Factor: 5%; Supplier 1: Mouser; RoHS: Yes; Category: Ceramic Capacitors; Stock 1: 131301; Pricing 1: 1=0.91, 10=0.671, 50=0.671, 100=0.46, 1000=0.335, 10000=0.254 (USD); Mount: PCB,Surface Mount; Case/Package: 0805; Number of Pins: 2; Case Code (Imperial): 0805; Case Code (Metric): 2012; Min Operating Temperature: -55°C; Max Operating Temperature: 85°C; Capacitance: 47uF; Tolerance: 20%; Packaging: Tape and Reel; Dielectric: X5R; Package Quantity: 3000; Voltage Rating: 6.3V; Termination: SMD/SMT; Series: C0805C; Construction: Flat; Length: 2mm; Width: 1.2mm; Height: 1.25mm; Depth: 1.25mm; Radiation Hardening: No; Reach SVHC Compliant: No; RoHS Compliant: Yes; ComponentLink1URL: https://datasheet.ciiva.com/6137/40889-6137142.pdf?src-supplier=Farnell; ComponentLink1Description: https://datasheet.ciiva.com/6137/40889-6137142.pdf?src-supplier=Farnell; ComponentLink2URL: https://datasheet.ciiva.com/7842/40889-7842618.pdf?src-supplier=Element14; ComponentLink2Description: https://datasheet.ciiva.com/7842/40889-7842618.pdf?src-supplier=Element14; Supplier 2: Mouser; Manufacturer 2: KEMET; Manufacturer Part Number 2: C0805C476M9PACTU; Stock 2: 230971; Pricing 2: 1=0.91, 10=0.671, 50=0.671, 100=0.46, 1000=0.335, 10000=0.254 (USD); Supplier Part Number 2: 80-C0805C476M9P
footprint CAP_0805 (Chip Capacitor, 2-Leads, Body 2.10x1.35mm, IPC Medium Density)
pins: 1, 2

## CAP_47uF_16V_20%_X5R_1210
designator C?, comment 47uF 16V
Ceramic Capacitor, Multilayer, Ceramic, 16V, 20% +Tol, 20% -Tol, X5R, 15% TC, 47uF, Surface Mount, 1210; Manufacturer: KEMET; Manufacturer Part Number: C1210C476M4PACTU; Multilayer: Yes; Supplier: Digi-Key; Supplier Part Number: 399-C1210C476M4PAC7800CT-ND; RoHS: Yes; Category: Ceramic Capacitors; Stock: 57016; Pricing: 1=1.07, 10=0.772, 50=0.675, 100=0.5499, 500=0.44996 (USD); Mounting Technology: Surface Mount; Pins: 2; Dielectric Material: Ceramic; Package Shape: Rectangular; Case/Package: 1210; Terminal Finish: Nickel; Min Operating Temperature: -55°C; Max Operating Temperature: 85°C; JESD-609 Code: e3; Value: 47uF; Capacitor Type: Ceramic; Tolerance  (fill in as +-): 20%; Package Style: SMTMeter; Packaging: Tape and Reel; Tolerance (fill in as +-): 20%; Rated DC Voltage (URdc): 16V; Temperature Characteristics Code: X5R; Termination: Wraparound; Length: 3.2mm; Width: 2.5mm; Height: 2.5mm; Reach SVHC Compliant: Yes; RoHS Compliant: Yes; ComponentLink1URL: https://datasheet.ciiva.com:443/pdfs/VipMasterIC/IC/KEME/KEME-S-A0008991665/KEME-S-A0008991665-1.pdf?src-supplier=IHS+Markit; ComponentLink1Description: https://datasheet.ciiva.com:443/pdfs/VipMasterIC/IC/KEME/KEME-S-A0008991665/KEME-S-A0008991665-1.pdf?src-supplier=IHS+Markit; ComponentLink2URL: https://datasheet.ciiva.com/22705/652158-22705488.pdf?src-supplier=Element14; ComponentLink2Description: https://datasheet.ciiva.com/22705/652158-22705488.pdf?src-supplier=Element14; ComponentLink3URL: https://datasheet.ciiva.com/28608/1918694-28608774.pdf?src-supplier=Element14; ComponentLink3Description: https://datasheet.ciiva.com/28608/1918694-28608774.pdf?src-supplier=Element14
footprint CAP_1210
pins: 1, 2

## CAP_100nF-10V-5%-0603
designator C?, comment 100nF
Multilayer Ceramic Capacitor, 0.1 uF, 10 V, ± 10%, X7R, 0603 [1608 Metric]; Manufacturer: Yageo; Manufacturer Part Number: CC0603KRX7R6BB104; Case/Package: 0603; Supplier-1: Digikey; Supplier 1: Digi-Key; Manufacturer 1: Yageo; Manufacturer Part Number 1: CC0603KRX7R6BB104; RoHS: Yes; Category: Ceramic Capacitors; Stock 1: 219964; Pricing 1: 1=0.1, 10=0.07, 50=0.0398, 100=0.033, 500=0.02316, 1000=0.01918 (USD); ComponentLink1URL: https://datasheet.ciiva.com/11586/upy-gphc-x7r-6-3v-to-50v-8-11586327.pdf?src-supplier=Avnet; ComponentLink1Description: https://datasheet.ciiva.com/11586/upy-gphc-x7r-6-3v-to-50v-8-11586327.pdf?src-supplier=Avnet; Supplier Part Number 1: 311-4055-1-ND
footprint CAP_0603 (Capacitor)
pins: 1, 2

## CAP_100nF-10V-10%-0402
designator C?, comment 100nF
Multilayer Ceramic Capacitor, 0.1 uF, 25 V, ± 10%, X7R, 0402 [1005 Metric]; Manufacturer: Yageo; Manufacturer Part Number: CC0402KRX7R6BB104; Voltage Rating: 10V; Case/Package: 0402; Supplier-1: Digikey; Supplier 1: Digi-Key; Manufacturer 1: Yageo; Manufacturer Part Number 1: CC0402KRX7R6BB104; RoHS: Yes; Category: Ceramic Capacitors; Stock 1: 564425; Pricing 1: 1=0.1, 10=0.024, 50=0.013, 100=0.0106, 500=0.0076, 1000=0.00597, 2500=0.00543, 5000=0.00499 (USD); Mount: Surface Mount; Number of Pins: 2; Case Code (Imperial): 0402; Case Code (Metric): 1005; Min Operating Temperature: -55°C; Max Operating Temperature: 125°C; Capacitance: 100nF; Tolerance: 10%; Packaging: Tape and Reel; Dielectric: X7R; Termination: SMD/SMT; Package Quantity: 1; Voltage Rating (DC): 10V; Voltage: 10V; Series: CC; Construction: Flat; Length: 1mm; Width: 0.02inch; Height: 0.5mm; Depth: 0.5mm; Thickness: 0.022inch; Radiation Hardening: No; RoHS Compliant: Yes; Lead Free: Lead Free; Halogen Free: Halogen Free; Reach SVHC Compliant: Unknown; ComponentLink1URL: https://datasheet.ciiva.com/144/mlccorderingcode-144363.pdf?src-supplier=Digi-Key; ComponentLink1Description: https://datasheet.ciiva.com/144/mlccorderingcode-144363.pdf?src-supplier=Digi-Key; ComponentLink2URL: https://datasheet.ciiva.com/144/mlccorderingcode-144365.pdf?src-supplier=Digi-Key; ComponentLink2Description: https://datasheet.ciiva.com/144/mlccorderingcode-144365.pdf?src-supplier=Digi-Key; ComponentLink3URL: https://datasheet.ciiva.com/11786/0900766b80d84f1d-11786159.pdf?src-supplier=Rs; ComponentLink3Description: https://datasheet.ciiva.com/11786/0900766b80d84f1d-11786159.pdf?src-supplier=Rs; ComponentLink4URL: https://datasheet.ciiva.com/144/mlccorderingcode-144364.pdf?src-supplier=Digi-Key; ComponentLink4Description: https://datasheet.ciiva.com/144/mlccorderingcode-144364.pdf?src-supplier=Digi-Key; ComponentLink5URL: https://datasheet.ciiva.com/26862/getdatasheetpartid-317655-26862631.pdf?src-supplier=Verical; ComponentLink5Description: https://datasheet.ciiva.com/26862/getdatasheetpartid-317655-26862631.pdf?src-supplier=Verical; ComponentLink6URL: https://datasheet.ciiva.com/5426/upy-gphc-x7r-6-3v-to-50v-8-5426469.pdf?src-supplier=Mouser; ComponentLink6Description: https://datasheet.ciiva.com/5426/upy-gphc-x7r-6-3v-to-50v-8-5426469.pdf?src-supplier=Mouser; ComponentLink7URL: https://datasheet.ciiva.com/28450/1489800-28450311.pdf?src-supplier=Element14; ComponentLink7Description: https://datasheet.ciiva.com/28450/1489800-28450311.pdf?src-supplier=Element14; Supplier Part Number 1: 311-1345-1-ND
footprint CAP_0402 (Capacitor)
pins: 1, 2

## CAP_100nF-25V-10%-0201
designator C?, comment 100nF
Multilayer Ceramic Capacitor, 0.1 uF, 25 V, ± 10%, X5R, 0201 [0603 Metric]; Manufacturer: TDK Corporation; Manufacturer Part Number: C0603X5R1E104K030BB; Manufacturer 1: TDK; Voltage Rating: 25V; Case/Package: 0201; Supplier-1: Digikey; Supplier 1: Digi-Key; Manufacturer Part Number 1: C0603X5R1E104K030BB; RoHS: Yes; Category: Ceramic Capacitors; Stock 1: 525939; Pricing 1: 1=0.1, 10=0.069, 50=0.0376, 100=0.0307, 500=0.02192, 1000=0.01722, 2500=0.01566, 5000=0.0144 (USD); Mount: Surface Mount; Case Code (Metric): 0603; Case Code (Imperial): 0201; Weight: 6E-06oz; Dielectric Material: Ceramic; Min Operating Temperature: -55°C; Max Operating Temperature: 85°C; Package Quantity: 15000; Packaging: Tape and Reel; Capacitance: 100nF; Tolerance: 10%; Dielectric: X5R; Termination: SMD/SMT; Voltage Rating (DC): 25V; Series: C; Length: 0.6mm; Width: 0.3mm; Height: 0.3mm; Depth: 0.3mm; Reach SVHC Compliant: No; Lead Free: Lead Free; RoHS Compliant: Yes; ComponentLink1URL: https://datasheet.ciiva.com/14915/tdkmlcccaprange-14915358.pdf?src-supplier=Digi-Key; ComponentLink1Description: https://datasheet.ciiva.com/14915/tdkmlcccaprange-14915358.pdf?src-supplier=Digi-Key; Supplier Part Number 1: 445-13671-1-ND
footprint CAP_0201
pins: 1, 2

## CAP_100nF-25V-10%-0402
designator C?, comment 100nF
Multilayer Ceramic Capacitor, 0.1 F, 10%, X7R, 25 V, 0402 [1005 Metric] RoHS Compliant: Yes; Manufacturer: Walsin Technology Corporation; Manufacturer Part Number: 0402B104K250CT; Manufacturer 1: Walsin Technologies; Case/Package: 0402; Supplier-1: Digikey; Supplier 1: Digi-Key; Manufacturer Part Number 1: 0402B104K250CT; RoHS: Yes; Category: Ceramic Capacitors; Stock 1: 1195366; Pricing 1: 1=0.1, 10=0.053, 50=0.029, 100=0.0238, 500=0.01696, 1000=0.01333, 2500=0.01212, 5000=0.01115 (USD); ComponentLink1URL: http://www.farnell.com/datasheets/2340522.pdf?src-supplier=Farnell; ComponentLink1Description: http://www.farnell.com/datasheets/2340522.pdf?src-supplier=Farnell; ComponentLink2URL: http://www.farnell.com/datasheets/1958513.pdf?src-supplier=Farnell; ComponentLink2Description: http://www.farnell.com/datasheets/1958513.pdf?src-supplier=Farnell; ComponentLink3URL: https://datasheet.octopart.com/0402B104K250CT-Walsin-Technologies-datasheet-85392065.pdf?src-supplier=Element14; ComponentLink3Description: https://datasheet.octopart.com/0402B104K250CT-Walsin-Technologies-datasheet-85392065.pdf?src-supplier=Element14; ComponentLink4URL: http://www.passivecomponent.com/wp-content/uploads/2018/10/MLCC.pdf?src-supplier=Digi-Key; ComponentLink4Description: http://www.passivecomponent.com/wp-content/uploads/2018/10/MLCC.pdf?src-supplier=Digi-Key; ComponentLink5URL: http://www.passivecomponent.com/indexsea/0402B104K250CT-TN.pdf?src-supplier=Digi-Key; ComponentLink5Description: http://www.passivecomponent.com/indexsea/0402B104K250CT-TN.pdf?src-supplier=Digi-Key; ComponentLink6URL: https://datasheet.octopart.com/0402B104K250CT-Walsin-Technologies-datasheet-62066062.pdf?src-supplier=TME; ComponentLink6Description: https://datasheet.octopart.com/0402B104K250CT-Walsin-Technologies-datasheet-62066062.pdf?src-supplier=TME; ComponentLink7URL: https://datasheet.octopart.com/0402B104K250CT-Walsin-Technologies-datasheet-136037192.pdf?src-supplier=TECHDesign; ComponentLink7Description: https://datasheet.octopart.com/0402B104K250CT-Walsin-Technologies-datasheet-136037192.pdf?src-supplier=TECHDesign; Supplier Part Number 1: 1292-1175-1-ND
footprint CAP_0402 (Capacitor)
pins: 1, 2

## CAP_100nF-25V-10%-0805
designator C?, comment 100nF
Multilayer Ceramic Capacitor, 0.1 uF, 25 V, ± 10%, X7R, 0805 [2012 Metric]; Manufacturer: Yageo; Manufacturer Part Number: CC0805KRX7R8BB104; Case/Package: 0805; Supplier-1: Digikey; Supplier 1: Digi-Key; Manufacturer 1: Yageo; Manufacturer Part Number 1: CC0805KRX7R8BB104; RoHS: Yes; Category: Ceramic Capacitors; Stock 1: 803232; Pricing 1: 1=0.11, 10=0.077, 50=0.0438, 100=0.0362, 500=0.02542, 1000=0.02104 (USD); ComponentLink1URL: https://datasheet.ciiva.com/8034/1784427-8034030.pdf?src-supplier=Element14; ComponentLink1Description: https://datasheet.ciiva.com/8034/1784427-8034030.pdf?src-supplier=Element14; ComponentLink2URL: https://datasheet.ciiva.com/28450/1489800-28450789.pdf?src-supplier=Element14; ComponentLink2Description: https://datasheet.ciiva.com/28450/1489800-28450789.pdf?src-supplier=Element14; ComponentLink3URL: https://datasheet.ciiva.com/8034/1784427-8034029.pdf?src-supplier=Element14; ComponentLink3Description: https://datasheet.ciiva.com/8034/1784427-8034029.pdf?src-supplier=Element14; ComponentLink4URL: https://datasheet.ciiva.com/8034/70765-8034031.pdf?src-supplier=Element14; ComponentLink4Description: https://datasheet.ciiva.com/8034/70765-8034031.pdf?src-supplier=Element14; ComponentLink5URL: https://datasheet.ciiva.com/46430/1850775-46430166.pdf?src-supplier=Element14; ComponentLink5Description: https://datasheet.ciiva.com/46430/1850775-46430166.pdf?src-supplier=Element14; ComponentLink6URL: https://datasheet.ciiva.com/15189/getdatasheetpartid-330244-15189223.pdf?src-supplier=Verical; ComponentLink6Description: https://datasheet.ciiva.com/15189/getdatasheetpartid-330244-15189223.pdf?src-supplier=Verical; ComponentLink7URL: https://datasheet.ciiva.com/145/mlccorderingcode-145007.pdf?src-supplier=Digi-Key; ComponentLink7Description: https://datasheet.ciiva.com/145/mlccorderingcode-145007.pdf?src-supplier=Digi-Key; ComponentLink8URL: https://datasheet.ciiva.com/145/mlccorderingcode-145008.pdf?src-supplier=Digi-Key; ComponentLink8Description: https://datasheet.ciiva.com/145/mlccorderingcode-145008.pdf?src-supplier=Digi-Key; ComponentLink9URL: https://datasheet.ciiva.com/145/mlccorderingcode-145009.pdf?src-supplier=Digi-Key; ComponentLink9Description: https://datasheet.ciiva.com/145/mlccorderingcode-145009.pdf?src-supplier=Digi-Key; Supplier Part Number 1: 311-1141-1-ND
footprint CAP_0805 (Ceramic Capacitor)
pins: 1, 2